# Altium footprint library MyLibrary.PcbLib: 365 footprints (part 16 of 23)
Each footprint in its own frame and in the unit in brackets; x right, y up, seen from the top. Pads: shape width x height; smd on the part's side, far side on the other; paste and mask are expansions set on the pad; w line width, h text height; cw(c..) or ccw(c..) is an arc to the next point about the centre after c.
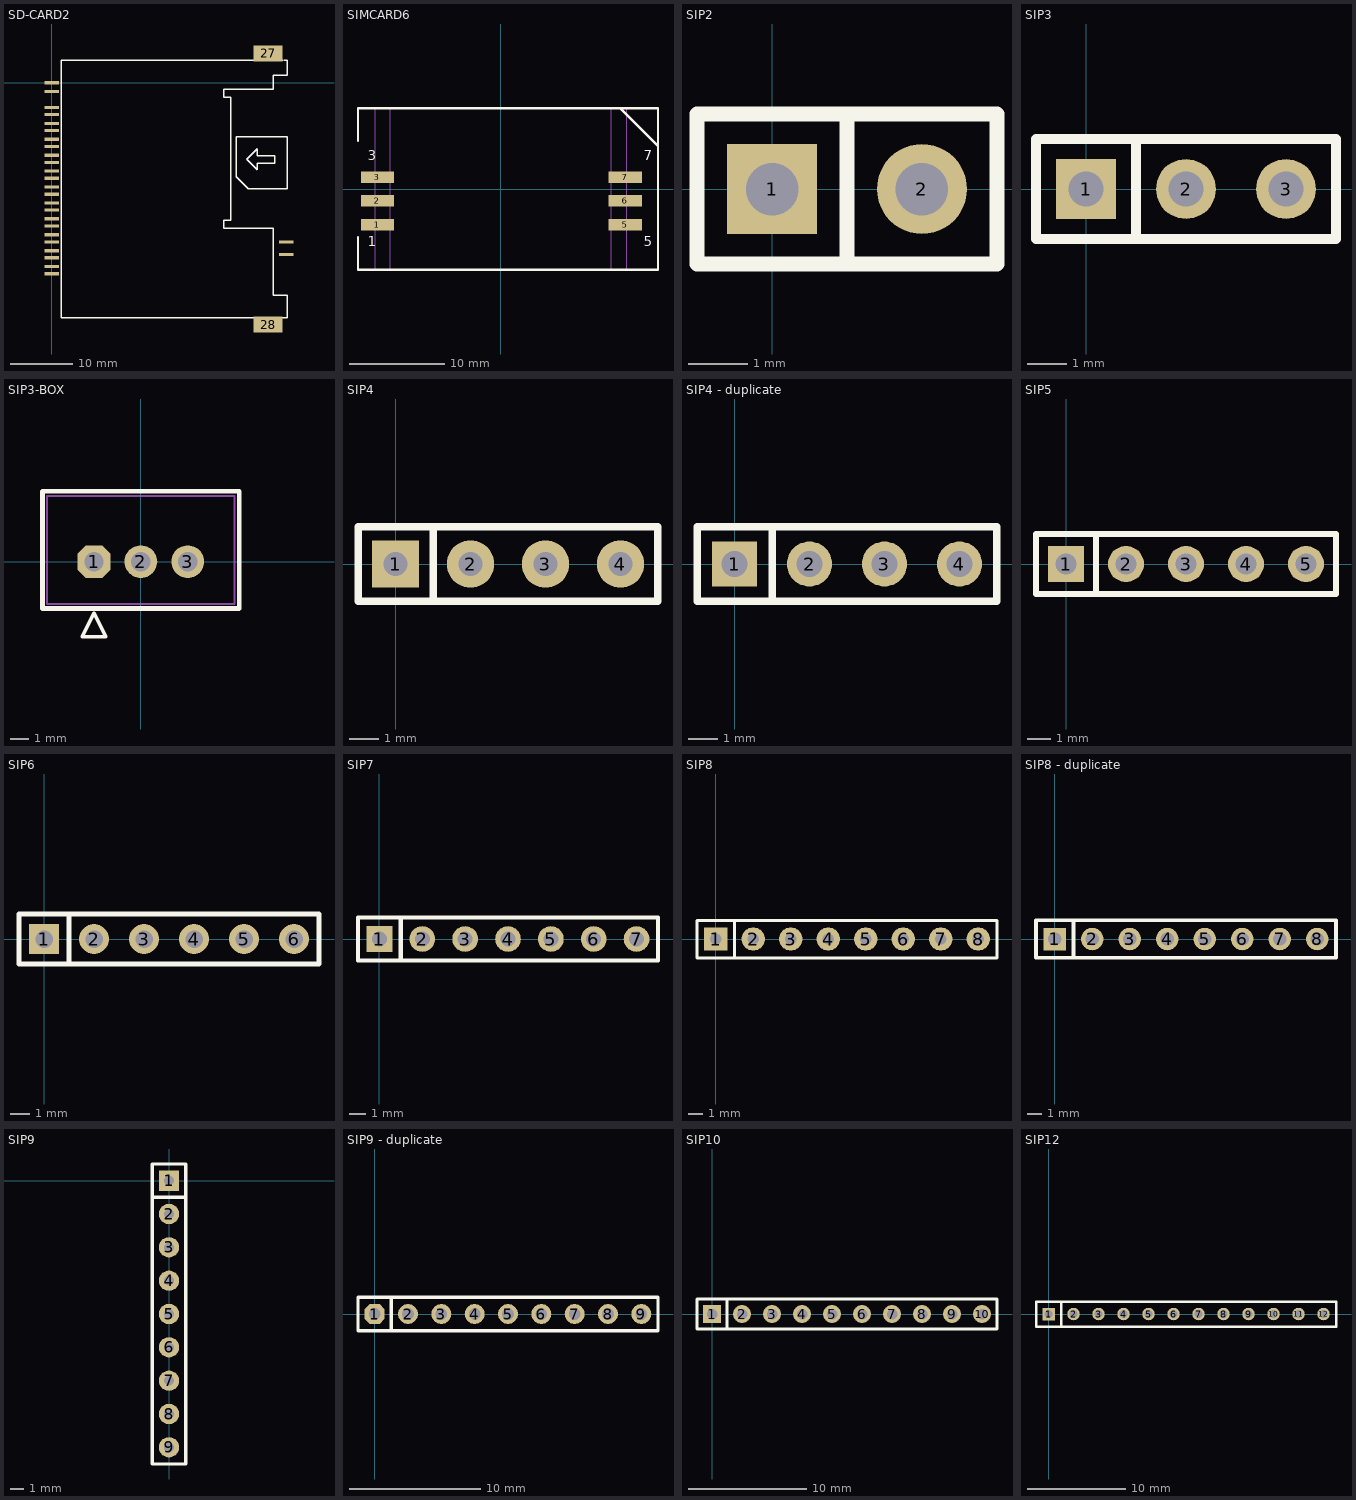
[diagram p15: the footprints below, top view; thin cyan lines are the x and y axes]

## SD-CARD2 [mil]
pads (28):
  rect 90x20 smd: 1(0,-1200) 2(0,-1100) 3(0,-1000) 4(0,-900) 5(0,-800) 6(0,-700) 7(0,-600) 8(0,-500) 9(0,-400) 10(0,-300) 11(0,-200) 12(0,-155) 13(0,-255) 14(0,-355) 15(0,-455) 16(0,-555) 17(0,-655) 18(0,-755) 19(0,-855) 20(0,-955) 21(0,-1055) 22(0,-1155) 23(0,-55) 24(0,0) 25(1475,-1080) 26(1475,-1000)
  rect 180x100 smd: 27(1360,185) 28(1360,-1520)
Top Overlay:
  lines w8: 1452,140 60,140 60,-1475 1480,-1475 1480,-1335 1394,-1335 1394,-915 1080,-915 1080,-864 1125,-864 1125,-92 1080,-92 1080,-40 1394,-40 1394,48 1480,48 1480,140 1457,140 ; 1160,-589 1160,-339 1479,-339 1479,-665 1236,-665 1160,-589 ; 1227.5,-480.5 1293,-415 1293,-458 1403,-458 1403,-505 1293,-505 1293,-546 1227.5,-480.5

## SIMCARD6 [mm]
pads (6):
  rect 3.5x1.2 smd: 1(-12.954,-3.75) 2(-12.954,-1.25) 3(-12.954,1.25) 5(13.054,-3.75) 6(13.054,-1.25) 7(13.054,1.25)
Top Overlay:
  lines w0.254: -15,-5.08 -15,-8.5 16.5,-8.5 16.5,8.5 -15,8.5 -15,5.08 ; 12.5,8.5 16.5,4.5
  text "1" at -14,-6 h1.02
  text "3" at -14,3 h1.02
  text "5" at 15,-6 h1.02
  text "7" at 15,3 h1.02
Mechanical 2:
  lines w0.1: -13.2,-8.5 -13.2,8.5 ; -11.6,-8.5 -11.6,8.5 ; 11.6,-8.5 11.6,8.5 ; 13.2,-8.5 13.2,8.5

## SIP2 [mil]
pads (2):
  rect 60x60 hole 35: 1(0,0)
  round 60 hole 35: 2(100,0)
Top Overlay:
  lines w10: 50,-50 50,50 ; -50,-50 -50,50 150,50 150,-50 -50,-50

## SIP3 [mil]
pads (3):
  rect 60x60 hole 35: 1(0,0)
  round 60 hole 35: 2(100,0) 3(200,0)
Top Overlay:
  lines w10: 50,-50 50,50 ; -50,-50 -50,50 250,50 250,-50 -50,-50

## SIP3-BOX [mil]
pads (3):
  oct 70x70 hole 41.34: 1(-100,0)
  round 70 hole 41.34: 2(0,0) 3(100,0)
Top Overlay:
  lines w8: -125,-160 -100,-110 -75,-160 -125,-160
  lines w10: -210,-100 210,-100 210,150 -210,150 -210,-100
Bottom Overlay:
  text "1" at -100,60 h40
  text "3" at 110,60 h40
Mechanical 1:
  lines w4: -200,-90 200,-90 200,140 -200,140 -200,-90

## SIP4 [mm]
pads (4):
  rect 1.6x1.6 hole 0.813: 1(0,0)
  round 1.6 hole 0.813: 2(2.54,0) 3(5.08,0) 4(7.62,0)
Top Overlay:
  lines w0.254: 1.27,-1.27 1.27,1.27 ; -1.27,-1.27 -1.27,1.27 8.89,1.27 8.89,-1.27 -1.27,-1.27

## SIP4 - duplicate [mil]
pads (4):
  rect 60x60 hole 35: 1(0,0)
  round 60 hole 35: 2(100,0) 3(200,0) 4(300,0)
Top Overlay:
  lines w10: 50,-50 50,50 ; -50,-50 350,-50 350,50 -50,50 -50,-50

## SIP5 [mil]
pads (5):
  rect 60x60 hole 35: 1(0,0)
  round 60 hole 35: 2(100,0) 3(200,0) 4(300,0) 5(400,0)
Top Overlay:
  lines w10: 50,-50 50,50 ; -50,-50 450,-50 450,50 -50,50 -50,-50

## SIP6 [mil]
pads (6):
  rect 60x60 hole 35: 1(0,0)
  round 60 hole 35: 2(100,0) 3(200,0) 4(300,0) 5(400,0) 6(500,0)
Top Overlay:
  lines w10: 50,-50 50,50 ; -50,-50 -50,50 550,50 550,-50 -50,-50

## SIP7 [mil]
pads (7):
  rect 60x60 hole 35: 1(0,0)
  round 60 hole 35: 2(100,0) 3(200,0) 4(300,0) 5(400,0) 6(500,0) 7(600,0)
Top Overlay:
  lines w10: 50,-50 50,50 ; -50,-50 -50,50 650,50 650,-50 -50,-50

## SIP8 [mil]
pads (8):
  rect 62x62 hole 30: 1(0,0)
  round 62 hole 30: 2(100,0) 3(200,0) 4(300,0) 5(400,0) 6(500,0) 7(600,0) 8(700,0)
Top Overlay:
  lines w8: 50,-50 50,50 ; -50,-50 750,-50 750,50 -50,50 -50,-50

## SIP8 - duplicate [mil]
pads (8):
  rect 60x60 hole 35: 1(0,0)
  round 60 hole 35: 2(100,0) 3(200,0) 4(300,0) 5(400,0) 6(500,0) 7(600,0) 8(700,0)
Top Overlay:
  lines w10: 50,-50 50,50 ; -50,-50 -50,50 750,50 750,-50 -50,-50

## SIP9 [mil]
pads (9):
  rect 60x60 hole 30: 1(0,0)
  round 60 hole 30: 2(0,-98.43) 3(0,-196.85) 4(0,-295.28) 5(0,-393.7) 6(0,-492.13) 7(0,-590.55) 8(0,-688.98) 9(0,-787.4)
Top Overlay:
  lines w10: -49.21,-49.21 49.21,-49.21 ; -49.21,-836.61 -49.21,49.21 49.21,49.21 49.21,-836.61 -49.21,-836.61

## SIP9 - duplicate [mil]
pads (9):
  oct 60x60 hole 35: 1(0,0)
  round 60 hole 35: 2(100,0) 3(200,0) 4(300,0) 5(400,0) 6(500,0) 7(600,0) 8(700,0) 9(800,0)
Top Overlay:
  lines w10: 50,-50 50,50 ; -50,-50 -50,50 850,50 850,-50 -50,-50

## SIP10 [mil]
pads (10):
  rect 60x60 hole 35: 1(0,0)
  round 60 hole 35: 2(100,0) 3(200,0) 4(300,0) 5(400,0) 6(500,0) 7(600,0) 8(700,0) 9(800,0) 10(900,0)
Top Overlay:
  lines w10: 50,-50 50,50 ; -50,-50 950,-50 950,50 -50,50 -50,-50

## SIP12 [mil]
pads (12):
  rect 50x50 hole 32: 1(0,0)
  round 50 hole 32: 2(100,0) 3(200,0) 4(300,0) 5(400,0) 6(500,0) 7(600,0) 8(700,0) 9(800,0) 10(900,0) 11(1000,0) 12(1100,0)
Top Overlay:
  lines w10: 50,-50 50,50 ; -50,-50 -50,50 1150,50 1150,-50 -50,-50